# Altium integrated library power-dc.IntLib: 24 symbols
Pins are listed as number, name and electrical type; pins without a type are passive.

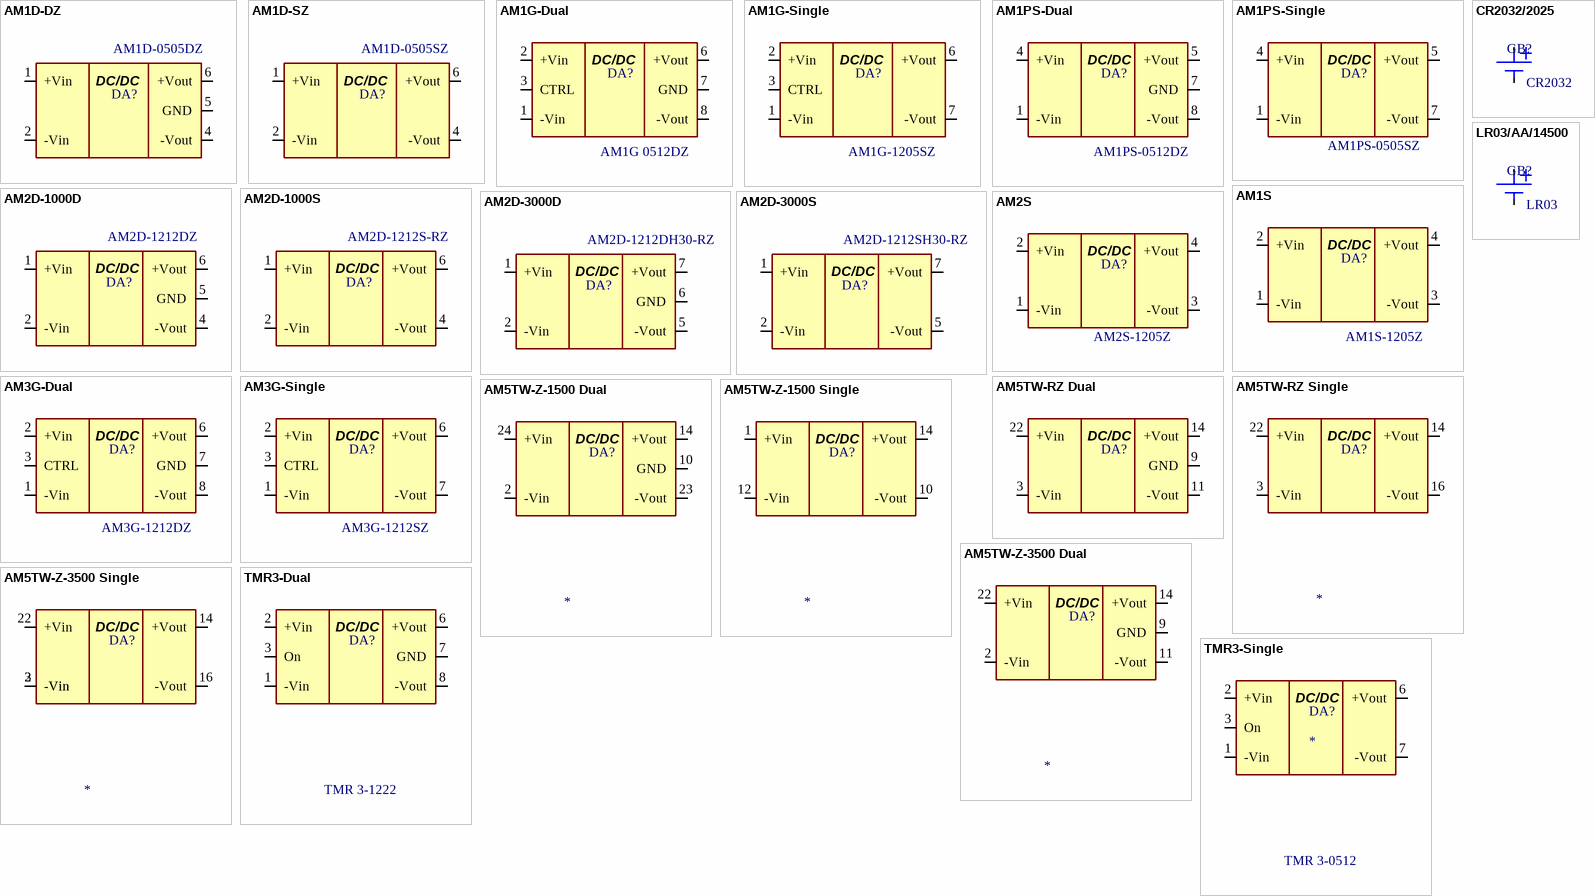
[diagram p0: symbols AM1D-DZ to TMR3-Single]

## AM1D-DZ
designator DA?, comment AM1D-0505DZ
DC/DC 1W Dual; NameSRT: *; Value: *; RevisionDate: 12-01-2018; Name: AM1D-0505DZ
footprint DC-AM1D-10.0
pins: 1 +Vin, 2 -Vin, 4 -Vout, 5 GND, 6 +Vout
text: DC/DC

## AM1D-SZ
designator DA?, comment AM1D-0505SZ
DC/DC 1W Single; NameSRT: *; Value: *; RevisionDate: 12-01-2018; Name: AM1D-0505SZ
footprint DC-AM1D-10.0
pins: 1 +Vin, 2 -Vin, 4 -Vout, 6 +Vout
text: DC/DC

## AM1G-Dual
designator DA?, comment AM1G 0512DZ
DC/DC 1W Dual; Value: 5V / ±12V 0.04A; ManufacturerPartNumber: AM1G 0512DZ; RevisionDate: 12-10-2018; Power/Voltage: 1W; Name: AM1G 0512DZ
footprint DC-AM3G-NZ-12.0
footprint DC-AM3G-SZ-12.0
pins: 1 -Vin, 2 +Vin, 3 CTRL, 6 +Vout, 7 GND, 8 -Vout
text: DC/DC

## AM1G-Single
designator DA?, comment AM1G-1205SZ
DC/DC 1W Single; Value: 12V / 5V 0.2A; ManufacturerPartNumber: AM1G-1205SZ; RevisionDate: 12-10-2018; Power/Voltage: 1W; Name: AM1G-1205SZ
footprint DC-AM3G-NZ-12.0
footprint DC-AM3G-SZ-12.0
pins: 1 -Vin, 2 +Vin, 3 CTRL, 6 +Vout, 7 -Vout
text: DC/DC

## AM1PS-Dual
designator DA?, comment AM1PS-0512DZ
DC/DC 1W Dual; NameSRT: *; Value: *; RevisionDate: 12-01-2018; Name: AM1PS-0512DZ
footprint DC-AM1PS-6.9
pins: 1 -Vin, 4 +Vin, 5 +Vout, 7 GND, 8 -Vout
text: DC/DC

## AM1PS-Single
designator DA?, comment AM1PS-0505SZ
DC/DC 1W Single; NameSRT: *; Value: *; RevisionDate: 12-01-2018; Name: AM1PS-0505SZ
footprint DC-AM1PS-6.9
pins: 1 -Vin, 4 +Vin, 5 +Vout, 7 -Vout
text: DC/DC

## AM1S
designator DA?, comment AM1S-1205Z
DC/DC 1W; NameSRT: *; Value: *; RevisionDate: 12-01-2018; Name: AM1S-1205Z
footprint DC-AM1S-10.2
pins: 1 -Vin, 2 +Vin, 3 -Vout, 4 +Vout
text: DC/DC

## AM2D-1000D
designator DA?, comment AM2D-1212DZ
DC/DC 2W Dual; NameSRT: *; Value: *; RevisionDate: 12-01-2018; Name: AM2D-1212DZ
footprint DC-AM2D-10.0
pins: 1 +Vin, 2 -Vin, 4 -Vout, 5 GND, 6 +Vout
text: DC/DC

## AM2D-1000S
designator DA?, comment AM2D-1212S-RZ
DC/DC 2W Single; NameSRT: *; Value: *; RevisionDate: 12-01-2018; Name: AM2D-1212S-RZ
footprint DC-AM2D-10.0
pins: 1 +Vin, 2 -Vin, 4 -Vout, 6 +Vout
text: DC/DC

## AM2D-3000D
designator DA?, comment AM2D-1212DH30-RZ
DC/DC 2W Dual; NameSRT: *; Value: *; RevisionDate: 12-01-2018; Name: AM2D-1212DH30-RZ
footprint DC-AM2D-10.0
pins: 1 +Vin, 2 -Vin, 5 -Vout, 6 GND, 7 +Vout
text: DC/DC

## AM2D-3000S
designator DA?, comment AM2D-1212SH30-RZ
DC/DC 2W Single; NameSRT: *; Value: *; RevisionDate: 12-01-2018; Name: AM2D-1212SH30-RZ
footprint DC-AM2D-10.0
pins: 1 +Vin, 2 -Vin, 5 -Vout, 7 +Vout
text: DC/DC

## AM2S
designator DA?, comment AM2S-1205Z
DC/DC 2W; NameSRT: *; Value: *; RevisionDate: 12-01-2018; Name: AM2S-1205Z
footprint DC-AM2S-10.2
pins: 1 -Vin, 2 +Vin, 3 -Vout, 4 +Vout
text: DC/DC

## AM3G-Dual
designator DA?, comment AM3G-1212DZ
DC/DC 3W Dual; NameSRT: *; Value: *; RevisionDate: 12-01-2018; Name: AM3G-1212DZ
footprint DC-AM3G-NZ-12.0
footprint DC-AM3G-SZ-12.0
pins: 1 -Vin, 2 +Vin, 3 CTRL, 6 +Vout, 7 GND, 8 -Vout
text: DC/DC

## AM3G-Single
designator DA?, comment AM3G-1212SZ
DC/DC 3W Single; NameSRT: *; Value: *; RevisionDate: 12-01-2018; Name: AM3G-1212SZ
footprint DC-AM3G-NZ-12.0
footprint DC-AM3G-SZ-12.0
pins: 1 -Vin, 2 +Vin, 3 CTRL, 6 +Vout, 7 -Vout
text: DC/DC

## AM5TW-RZ Dual
designator DA?, comment AM5TW  (value not drawn)
DC/DC 5W; Name: AM5TW; NameSRT: *; Value: *; RevisionDate: 12-01-2018
footprint DC-AM5TW-10.2
pins: 2 -Vin hidden, 3 -Vin, 9 GND, 11 -Vout, 14 +Vout, 16 GND hidden, 22 +Vin, 23 +Vin hidden
text: DC/DC

## AM5TW-RZ Single
designator DA?
DC/DC 5W; NameSRT: *; Value: *; RevisionDate: 12-01-2018; Name: *
footprint DC-AM5TW-10.2
pins: 2 -Vin hidden, 3 -Vin, 14 +Vout, 16 -Vout, 22 +Vin, 23 +Vin hidden
text: DC/DC

## AM5TW-Z-1500 Dual
designator DA?
DC/DC 5W; NameSRT: *; Value: *; RevisionDate: 12-01-2018; Name: *
footprint DC-AM5TW-10.2
pins: 1 +Vin hidden, 2 -Vin, 3 GND hidden, 10 GND, 11 +Vout hidden, 12 -Vin hidden, 13 -Vin hidden, 14 +Vout, 15 GND hidden, 22 GND hidden, 23 -Vout, 24 +Vin
text: DC/DC

## AM5TW-Z-1500 Single
designator DA?
DC/DC 5W; NameSRT: *; Value: *; RevisionDate: 12-01-2018; Name: *
footprint DC-AM5TW-10.2
pins: 1 +Vin, 10 -Vout, 11 +Vout hidden, 12 -Vin, 13 -Vin hidden, 14 +Vout, 15 -Vout hidden, 24 +Vin hidden
text: DC/DC

## AM5TW-Z-3500 Dual
designator DA?
DC/DC 5W; NameSRT: *; Value: *; RevisionDate: 12-01-2018; Name: *
footprint DC-AM5TW-10.2
pins: 2 -Vin, 3 -Vin hidden, 9 GND, 11 -Vout, 14 +Vout, 16 GND hidden, 22 +Vin, 23 +Vin hidden
text: DC/DC

## AM5TW-Z-3500 Single
designator DA?
DC/DC 5W; NameSRT: *; Value: *; RevisionDate: 12-01-2018; Name: *
footprint DC-AM5TW-10.2
pins: 2 -Vin, 3 -Vin, 14 +Vout, 16 -Vout, 22 +Vin, 23 +Vin hidden
text: DC/DC

## CR2032/2025
designator GB?, comment CR2032
Battery case; Value: *; RevisionDate: 12-01-2018; Name: CR2032
footprint CASE-2032-01
pins: 1, 2

## LR03/AA/14500
designator GB?, comment LR03
Battery single case; NameSRT: *; Value: *; RevisionDate: 12-01-2018; Name: LR03
footprint CASE-14505-X1-13.5
pins: 1, 2

## TMR3-Dual
designator DA?, comment TMR 3-1222
DC/DC 3W Dual; NameSRT: *; Value: *; RevisionDate: 12-01-2018; Name: TMR 3-1222
footprint DC-TMR3-11.2
pins: 1 -Vin, 2 +Vin, 3 On, 6 +Vout, 7 GND, 8 -Vout
text: DC/DC

## TMR3-Single
designator DA?  Name: TMR 3-0512
DC/DC 3W Single; NameSRT: *; Value: *; RevisionDate: 12-01-2018
footprint DC-TMR3-11.2
pins: 1 -Vin, 2 +Vin, 3 On, 6 +Vout, 7 -Vout
text: DC/DC